# EAGLE library part A139* (library ic-Allegro)
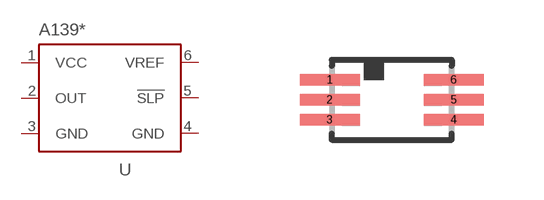
[diagram p0: symbol with the pads of DFN6; footprint DFN6]

Designator prefix U

## A1393 (SENSITIVITY: 5)  [DFN6]
1  VCC
2  OUT
3  GND
4  GND
5  !SLP
6  VREF

## Footprint DFN6 (pad centres in mm)
smd 1.5 x 0.297: 1 -1.55,0.5; 2 -1.55,0; 3 -1.55,-0.5; 4 1.55,-0.5; 5 1.55,0; 6 1.55,0.5